# Altium schematic symbol library ATECC608A-MAHDA-T.SchLib: 1 symbol
Pins are listed as number, name and electrical type; pins without a type are passive.

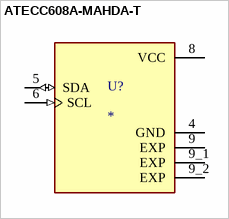
[diagram p0: symbol ATECC608A-MAHDA-T]

## ATECC608A-MAHDA-T
designator U?
IC AUTHENTICATION CHIP 8UDFN; MF: {'manufacturer': u'Microchip Technology'}; MP: ATECC608A-MAHDA-T; Package: None; Price: None; Value: *; Availability: Unavailable
footprint SON50P200X300X60-9N
pins: 4 GND (power), 5 SDA (io), 6 SCL (in), 8 VCC (power), 9 EXP (power), 9_1 EXP (power), 9_2 EXP (power)